# EAGLE library part FXMAR2102 (library Synapseware)
Dual-Supply, 2-Bit Voltage Translator / Isolator for I2C Applications
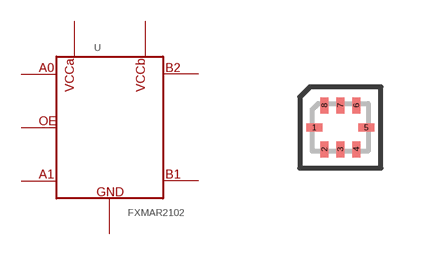
[diagram p9: symbol with the pads of UMLP-8; footprint UMLP-8]

Designator prefix -

## FXMAR2102  [UMLP-8]
1  1
2  2
3  3
4  4
5  5
6  6
7  7
8  8

## Footprint UMLP-8 (pad centres in mm)
UMLP-8
smd 0.406 x 0.203: 1 -0.65,0; 5 0.65,0
smd 0.203 x 0.406: 2 -0.4,-0.55; 3 0,-0.55; 4 0.4,-0.55; 6 0.4,0.55; 7 0,0.55; 8 -0.4,0.55